# EAGLE library part ZX62D-B-5P8 (library ZX62D-B-5P8)
SMD+DIP Micro USB; MICRO-B-SMD
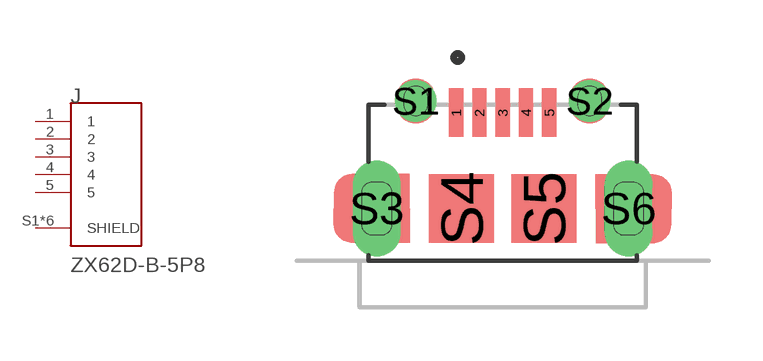
[diagram p0: symbol with the pads of HRS_ZX62D-B-5P8; footprint HRS_ZX62D-B-5P8]

Designator prefix J

## ZX62D-B-5P8 (Availability: Unavailable; Description: USB - micro B USB 2.0 Receptacle Connector 5 Position Surface Mount, Right Angle; Through Hole; MF: Hirose; MP: ZX62D-B-5P8; Package: None; Price: None)  [HRS_ZX62D-B-5P8]
1  1  pas
2  2  pas
3  3  pas
4  4  pas
5  5  pas
S1  SHIELD  pas
S2  SHIELD  pas
S3  SHIELD  pas
S4  SHIELD  pas
S5  SHIELD  pas
S6  SHIELD  pas

## Footprint HRS_ZX62D-B-5P8 (pad centres in mm)
smd 0.4 x 1.35: 1 -1.3,2.6; 2 -0.65,2.6; 3 0,2.6; 4 0.65,2.6; 5 1.3,2.6
drill 0.65 pad 1.05: S1 -2.425,2.925; S2 2.425,2.925
drill 0.825 pad 0.95 long: S3 -3.513,-0.075; S6 3.513,-0.075
smd 1.8 x 1.9: S4 -1.15,-0.075; S5 1.15,-0.075